# Altium footprint library KOMMUT.PcbLib: 48 footprints (part 1 of 3)
Each footprint in its own frame and in the unit in brackets; x right, y up, seen from the top. Pads: shape width x height; smd on the part's side, far side on the other; paste and mask are expansions set on the pad; w line width, h text height; cw(c..) or ccw(c..) is an arc to the next point about the centre after c.
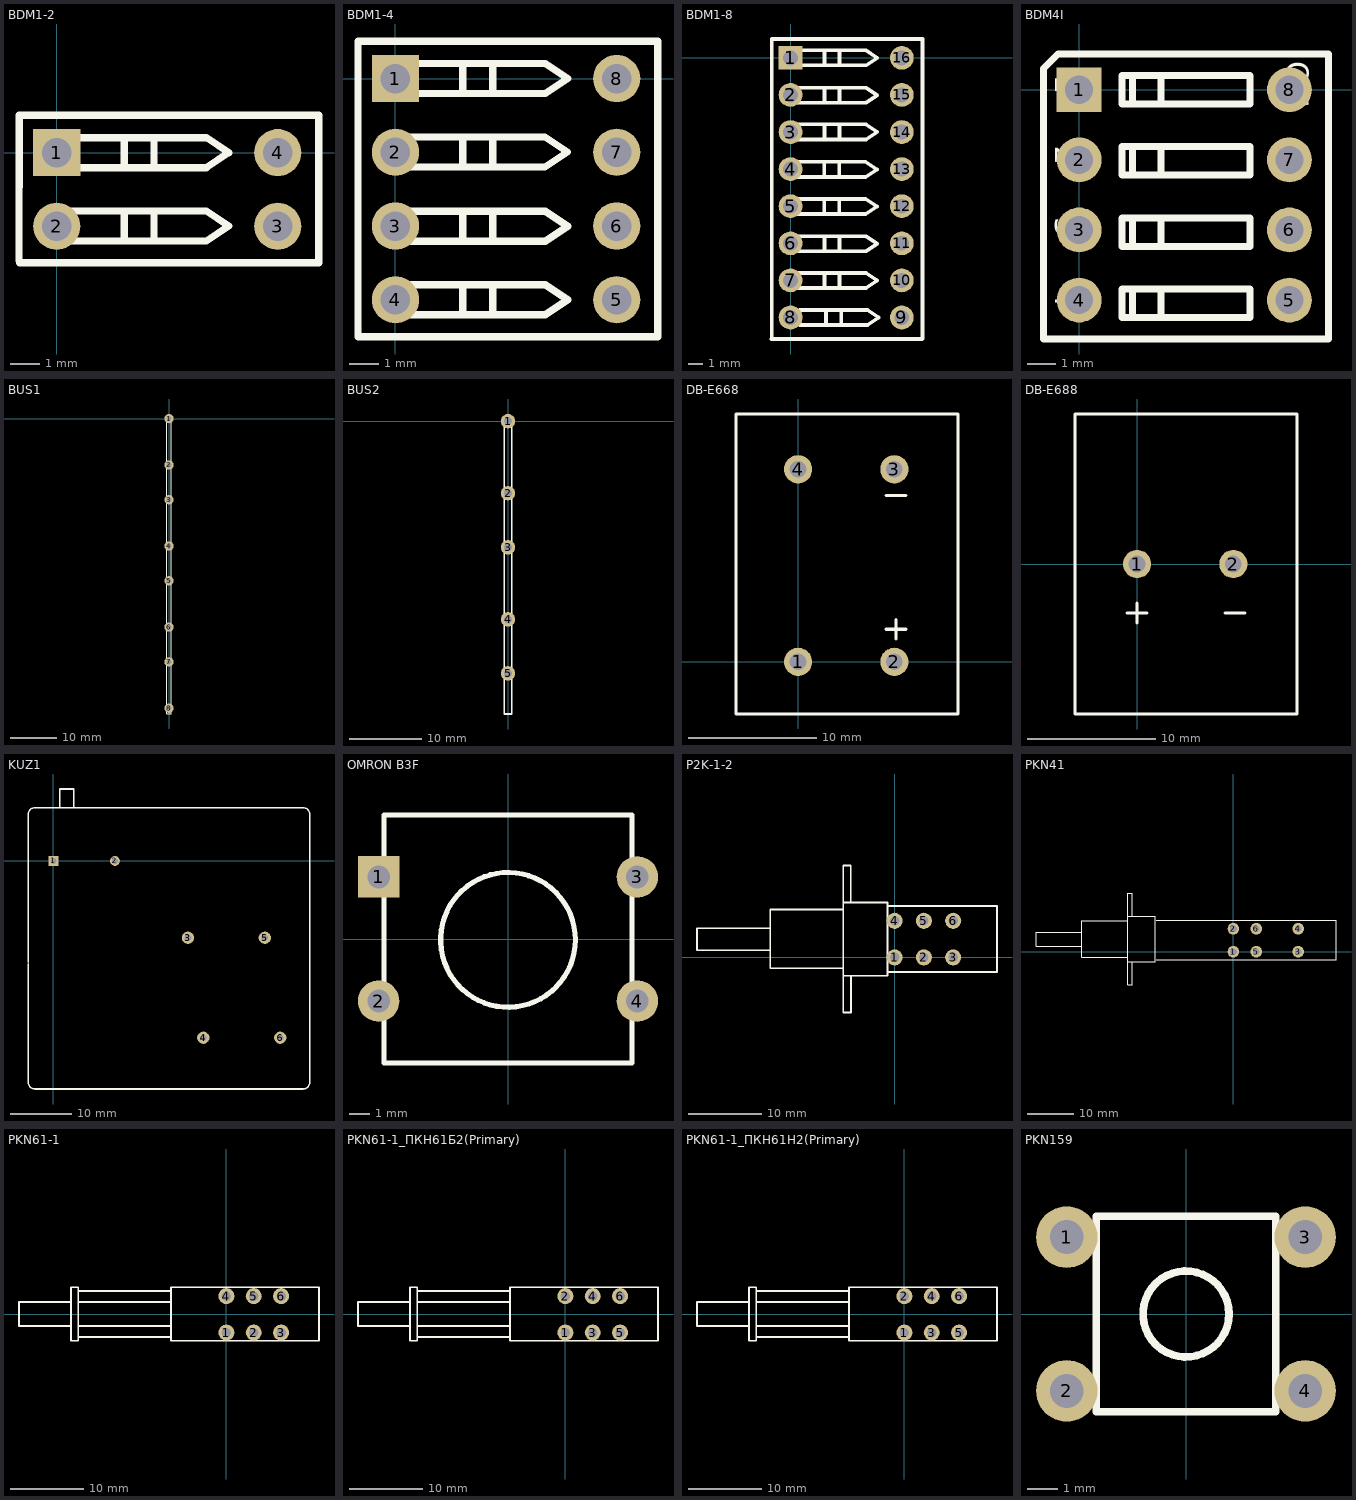
[diagram p0: the footprints below, top view; thin cyan lines are the x and y axes]

## BDM1-2 [mm]
pads (4):
  rect 1.6x1.6 hole 1: 1(0,0)
  round 1.6 hole 1: 2(0,-2.5) 3(7.5,-2.5) 4(7.5,0)
Top Overlay:
  lines w0.25: -1.28,-3.67 -1.27,1.27 8.89,1.27 8.89,-3.71 ; -1.26,-3.74 8.9,-3.74 ; 2.286,-1.982 2.286,-2.998 3.302,-2.998 3.302,-1.982 ; 2.286,0.508 2.286,-0.508 3.302,-0.508 3.302,0.508 ; 0.508,-2.998 5.08,-2.998 5.842,-2.49 5.08,-1.982 0.508,-1.982 0.508,-2.998 ; 0.508,-0.508 5.08,-0.508 5.842,0 5.08,0.508 0.508,0.508 0.508,-0.508

## BDM1-4 [mm]
pads (8):
  rect 1.6x1.6 hole 1: 1(0,0)
  round 1.6 hole 1: 2(0,-2.5) 3(0,-5) 4(0,-7.5) 5(7.5,-7.5) 6(7.5,-5) 7(7.5,-2.5) 8(7.5,0)
Top Overlay:
  lines w0.25: -1.27,-8.75 -1.27,1.27 8.89,1.27 8.89,-8.74 ; -1.26,-8.76 8.9,-8.76 ; 2.276,-1.982 2.276,-2.998 3.292,-2.998 3.292,-1.982 ; 2.286,-6.992 2.286,-8.008 3.302,-8.008 3.302,-6.992 ; 2.286,-4.502 2.286,-5.518 3.302,-5.518 3.302,-4.502 ; 2.286,0.508 2.286,-0.508 3.302,-0.508 3.302,0.508 ; 0.498,-2.998 5.07,-2.998 5.832,-2.49 5.07,-1.982 0.498,-1.982 0.498,-2.998 ; 0.508,-8.008 5.08,-8.008 5.842,-7.5 5.08,-6.992 0.508,-6.992 0.508,-8.008 ; 0.508,-5.518 5.08,-5.518 5.842,-5.01 5.08,-4.502 0.508,-4.502 0.508,-5.518 ; 0.508,-0.508 5.08,-0.508 5.842,0 5.08,0.508 0.508,0.508 0.508,-0.508

## BDM1-8 [mm]
pads (16):
  rect 1.6x1.6 hole 1: 1(0,0)
  round 1.6 hole 1: 2(0,-2.5) 3(0,-5) 4(0,-7.5) 5(0,-10) 6(0,-12.5) 7(0,-15) 8(0,-17.5) 9(7.5,-17.5) 10(7.5,-15) 11(7.5,-12.5) 12(7.5,-10) 13(7.5,-7.5) 14(7.5,-5) 15(7.5,-2.5) 16(7.5,0)
Top Overlay:
  lines w0.25: -1.28,-18.95 8.88,-18.95 ; -1.27,-18.91 -1.27,1.27 8.89,1.27 8.89,-18.92 ; 2.266,-9.512 2.266,-10.528 3.282,-10.528 3.282,-9.512 ; 2.276,-7.012 2.276,-8.028 3.292,-8.028 3.292,-7.012 ; 2.286,-14.502 2.286,-15.518 3.302,-15.518 3.302,-14.502 ; 2.286,-12.022 2.286,-13.038 3.302,-13.038 3.302,-12.022 ; 2.286,-4.482 2.286,-5.498 3.302,-5.498 3.302,-4.482 ; 2.286,-2.012 2.286,-3.028 3.302,-3.028 3.302,-2.012 ; 2.286,0.508 2.286,-0.508 3.302,-0.508 3.302,0.508 ; 2.393,-16.992 2.393,-18.008 3.409,-18.008 3.409,-16.992 ; 0.488,-10.528 5.06,-10.528 5.822,-10.02 5.06,-9.512 0.488,-9.512 0.488,-10.528 ; 0.498,-8.028 5.07,-8.028 5.832,-7.52 5.07,-7.012 0.498,-7.012 0.498,-8.028 ; 0.508,-15.518 5.08,-15.518 5.842,-15.01 5.08,-14.502 0.508,-14.502 0.508,-15.518 ; 0.508,-13.038 5.08,-13.038 5.842,-12.53 5.08,-12.022 0.508,-12.022 0.508,-13.038 ; 0.508,-5.498 5.08,-5.498 5.842,-4.99 5.08,-4.482 0.508,-4.482 0.508,-5.498 ; 0.508,-3.028 5.08,-3.028 5.842,-2.52 5.08,-2.012 0.508,-2.012 0.508,-3.028 ; 0.508,-0.508 5.08,-0.508 5.842,0 5.08,0.508 0.508,0.508 0.508,-0.508 ; 0.615,-18.008 5.187,-18.008 5.949,-17.5 5.187,-16.992 0.615,-16.992 0.615,-18.008

## BDM4I [mm]
pads (8):
  rect 1.6x1.6 hole 1: 1(0,0)
  round 1.6 hole 1: 2(0,-2.5) 3(0,-5) 4(0,-7.5) 5(7.5,-7.5) 6(7.5,-5) 7(7.5,-2.5) 8(7.5,0)
Top Overlay:
  lines w0.25: 1.905,-7.112 1.905,-8.128 2.921,-8.128 2.921,-7.112 ; 1.905,-4.572 1.905,-5.588 2.921,-5.588 2.921,-4.572 ; 1.905,-2.032 1.905,-3.048 2.921,-3.048 2.921,-2.032 ; 1.905,0.508 1.905,-0.508 2.921,-0.508 2.921,0.508 ; -1.27,-8.89 8.89,-8.89 8.89,1.27 -0.762,1.27 -1.27,0.762 -1.27,-8.89 ; 1.524,-8.128 6.096,-8.128 6.096,-7.62 6.096,-7.112 1.524,-7.112 1.524,-8.128 ; 1.524,-5.588 6.096,-5.588 6.096,-5.08 6.096,-4.572 1.524,-4.572 1.524,-5.588 ; 1.524,-3.048 6.096,-3.048 6.096,-2.54 6.096,-2.032 1.524,-2.032 1.524,-3.048 ; 1.524,-0.508 6.096,-0.508 6.096,0 6.096,0.508 1.524,0.508 1.524,-0.508
  text "2" at -0.857,-2 h0.79
  text "ON" at 7.398,1.016 h0.79
  text "1" at -0.857,0.54 h0.79
  text "3" at -0.857,-4.54 h0.79
  text "4" at -0.857,-7.08 h0.79

## BUS1 [mm]
pads (8):
  round 2 hole 1.1: 1(0,0) 2(0,-10) 3(0,-17.5) 4(0,-27.5) 5(0,-35) 6(0,-45) 7(0,-52.5) 8(0,-62.5)
Top Overlay:
  lines w0.25: -0.508,-63.754 0.508,-63.754 0.508,0.254 -0.508,0.254 -0.508,-63.754

## BUS2 [mm]
pads (5):
  round 2 hole 1.1: 1(0,0) 2(0,-10) 3(0,-17.5) 4(0,-27.5) 5(0,-35)
Top Overlay:
  lines w0.25: -0.508,-40.64 -0.508,0.254 0.508,0.254 0.508,-40.64 -0.508,-40.64

## DB-E668 [mm]
pads (4):
  round 2.2 hole 1.3: 1(0,0) 2(7.5,0) 3(7.5,15) 4(0,15)
Top Overlay:
  lines w0.25: 6.858,2.54 8.382,2.54 ; 6.858,12.954 8.382,12.954 ; 7.62,1.778 7.62,3.302 ; -4.826,-4.064 12.446,-4.064 12.446,19.304 -4.826,19.304 -4.826,-4.064

## DB-E688 [mm]
pads (2):
  round 2.2 hole 1.3: 1(0,0) 2(7.5,0)
Top Overlay:
  lines w0.25: -0.762,-3.81 0.762,-3.81 ; 0,-4.572 0,-3.048 ; 6.858,-3.81 8.382,-3.81 ; -4.826,-11.684 12.446,-11.684 12.446,11.684 -4.826,11.684 -4.826,-11.684

## KUZ1 [mm]
pads (6):
  rect 1.6x1.6 hole 1: 1(0,0)
  round 1.6 hole 1: 2(10,0)
  round 2 hole 1.1: 3(21.875,-12.5) 4(24.375,-28.75) 5(34.375,-12.5) 6(36.875,-28.75)
Top Overlay:
  lines w0.25: -4.064,-36.068 -4.064,-16.764 ; -4.064,-36.066 ccw(c-3.048,-36.068) -3.046,-37.084 ; -4.064,-16.51 -4.064,7.62 ; -4.064,7.622 cw(c-3.048,7.62) -3.046,8.636 ; -3.048,-37.084 40.64,-37.084 ; -3.048,8.636 40.64,8.636 ; 1.016,8.636 1.016,11.684 3.302,11.684 3.302,8.636 ; 40.642,-37.084 ccw(c40.64,-36.068) 41.656,-36.068 41.656,7.62 ccw(c40.64,7.62) 40.642,8.636

## OMRON B3F [mm]
pads (4):
  rect 2x2 hole 1.1: 1(-6.25,3)
  round 2 hole 1.1: 2(-6.25,-3) 3(6.25,3) 4(6.25,-3)
Top Overlay:
  circle w0.25: c0,-0.04 r3.257
  lines w0.25: -6,-6 6,-6 6,6 5.5,6 -6,6 -6,-6

## P2K-1-2 [mm]
pads (6):
  round 2.2 hole 1.3: 1(0,0) 2(4,0) 3(8,0) 4(0,5) 5(4,5) 6(8,5)
Top Overlay:
  lines w0.25: -16.993,0.991 -26.949,0.991 -26.949,3.988 -16.993,3.988 ; -7.061,6.528 -16.967,6.528 -16.967,-1.473 -7.01,-1.473 ; -7.01,-2.489 -0.965,-2.489 -0.965,7.493 -6.96,7.493 ; -5.969,7.493 -5.969,12.522 -7.01,12.522 -7.01,-7.493 -5.944,-7.493 -5.944,-2.515 ; -0.965,-1.981 13.97,-1.981 13.97,7.036 -0.965,7.036

## PKN41 [mm]
pads (6):
  round 2.5 hole 1.5: 1(0,0) 2(0,5) 3(14.125,0) 4(14.125,5) 5(5,0) 6(5,5)
Top Overlay:
  lines w0.25: -32.995,1.245 -42.951,1.245 -42.951,4.242 -32.995,4.242 ; -23.063,6.782 -32.969,6.782 -32.969,-1.219 -23.012,-1.219 ; -23.012,-2.235 -16.967,-2.235 -16.967,7.747 -22.962,7.747 ; -21.971,7.747 -21.971,12.776 -23.012,12.776 -23.012,-7.239 -21.946,-7.239 -21.946,-2.261 ; -16.764,-1.778 14.986,-1.778 22.352,-1.778 22.352,6.858 15.494,6.858 -16.764,6.858

## PKN61-1 [mm]
pads (6):
  round 2.2 hole 1.3: 1(0,-2.54) 2(3.75,-2.54) 3(7.5,-2.54) 4(0,2.46) 5(3.75,2.46) 6(7.5,2.46)
Top Overlay:
  lines w0.25: -21.336,-1.626 -28.448,-1.626 -28.448,1.626 -21.336,1.626 ; -20.32,-3.175 -7.62,-3.175 ; -20.32,-1.626 -7.62,-1.626 ; -20.32,1.626 -7.62,1.626 ; -20.32,3.175 -7.62,3.175 ; -21.336,-3.658 -21.336,3.658 -20.32,3.658 -20.32,-3.658 -21.336,-3.658 ; -7.62,-3.658 12.7,-3.658 12.7,3.658 -7.62,3.658 -7.62,-3.658

## PKN61-1_ПКН61Б2(Primary) [mm]
pads (6):
  round 2.2 hole 1.3: 1(0,-2.54) 2(0,2.46) 3(3.75,-2.54) 4(3.75,2.46) 5(7.5,-2.54) 6(7.5,2.46)
Top Overlay:
  lines w0.25: -21.336,-1.626 -28.448,-1.626 -28.448,1.626 -21.336,1.626 ; -20.32,-3.175 -7.62,-3.175 ; -20.32,-1.626 -7.62,-1.626 ; -20.32,1.626 -7.62,1.626 ; -20.32,3.175 -7.62,3.175 ; -21.336,-3.658 -21.336,3.658 -20.32,3.658 -20.32,-3.658 -21.336,-3.658 ; -7.62,-3.658 12.7,-3.658 12.7,3.658 -7.62,3.658 -7.62,-3.658

## PKN61-1_ПКН61Н2(Primary) [mm]
pads (6):
  round 2.2 hole 1.3: 1(0,-2.54) 2(0,2.46) 3(3.75,-2.54) 4(3.75,2.46) 5(7.5,-2.54) 6(7.5,2.46)
Top Overlay:
  lines w0.25: -21.336,-1.626 -28.448,-1.626 -28.448,1.626 -21.336,1.626 ; -20.32,-3.175 -7.62,-3.175 ; -20.32,-1.626 -7.62,-1.626 ; -20.32,1.626 -7.62,1.626 ; -20.32,3.175 -7.62,3.175 ; -21.336,-3.658 -21.336,3.658 -20.32,3.658 -20.32,-3.658 -21.336,-3.658 ; -7.62,-3.658 12.7,-3.658 12.7,3.658 -7.62,3.658 -7.62,-3.658

## PKN159 [mm]
pads (4):
  round 2 hole 1.1: 1(-3.875,2.5) 2(-3.875,-2.5) 3(3.875,2.5) 4(3.875,-2.5)
Top Overlay:
  circle w0.25: c0,0 r1.397
  lines w0.25: -2.921,-3.175 2.921,-3.175 2.921,3.175 -2.921,3.175 -2.921,-3.175